# EAGLE library part TMR3-*WI (library ic)
TMR 3-xx2xWI, 3W DC/DC converter (Traco Power) Dual output
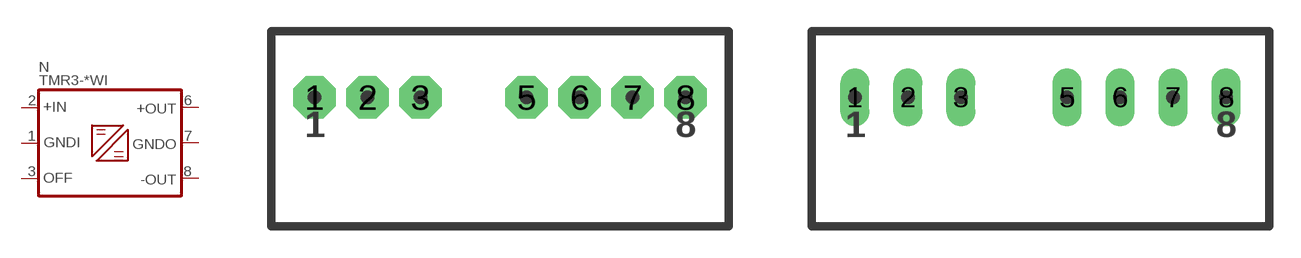
[diagram p138: symbol with the pads of TMR3WIN; footprints TMR3WIN, TMR3WIL]

Designator prefix N

## TMR3-1221WI, TMR3-1222WI, TMR3-1223WI, TMR3-2421WI, TMR3-2422WI, TMR3-2423WI, TMR3-4821WI, TMR3-4822WI, TMR3-4823WI  [TMR3WIN]
1  GNDI  pwr
2  +IN  pwr
3  OFF
6  +OUT  out
7  GNDO  out
8  -OUT  out

## TMR3-1221WIL, TMR3-1222WIL, TMR3-1223WIL, TMR3-2421WIL, TMR3-2422WIL, TMR3-2423WIL, TMR3-4821WIL, TMR3-4822WIL, TMR3-4823WIL  [TMR3WIL]
Pads as for TMR3WIN

## TMR3-1221WIN, TMR3-1222WIN, TMR3-1223WIN, TMR3-2421WIN, TMR3-2422WIN, TMR3-2423WIN, TMR3-4821WIN, TMR3-4822WIN, TMR3-4823WIN  [TMR3WIN]
Pads as for TMR3WIN

## Footprint TMR3WIN (pad centres in mm)
TMR 3WI, 3W DC/DC converter (Traco Power)
drill 0.813 pad 2.032 octagon: 1 -7.62,0; 2 -5.08,0; 3 -2.54,0; 5 2.54,0; 6 5.08,0; 7 7.62,0; 8 10.16,0

## Footprint TMR3WIL (pad centres in mm)
TMR 3WI, 3W DC/DC converter (Traco Power), long pads
drill 0.813 pad 1.397 long: 1 -7.62,0; 2 -5.08,0; 3 -2.54,0; 5 2.54,0; 6 5.08,0; 7 7.62,0; 8 10.16,0